# Altium integrated library Analog Devices.IntLib: 44 symbols
Pins are listed as number, name and electrical type; pins without a type are passive.

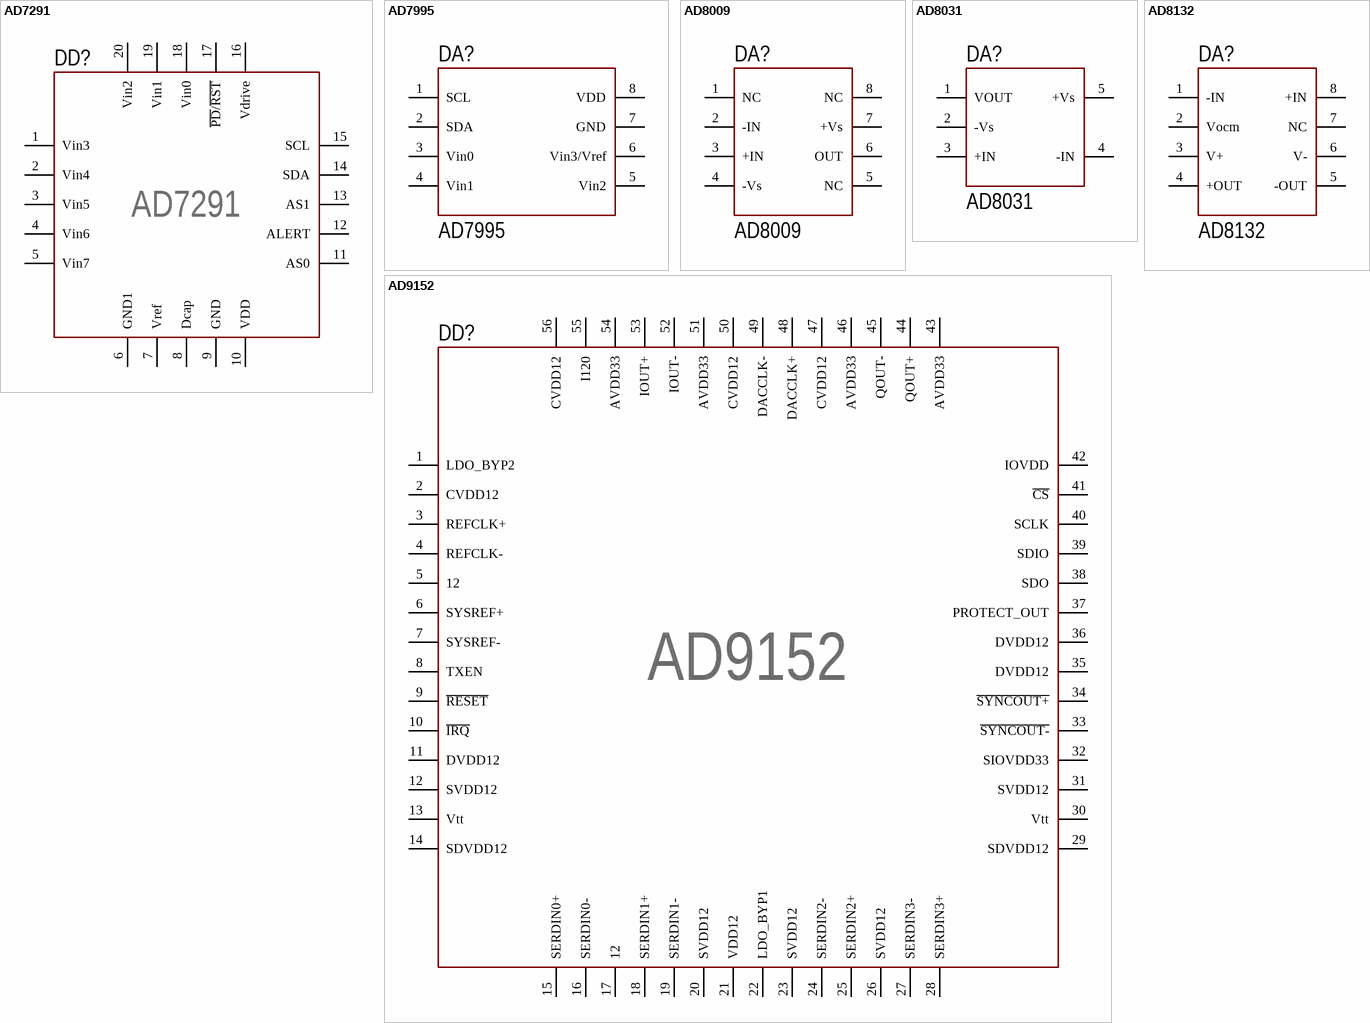
[diagram p0: symbols AD7291 to AD9152]

## AD7291
designator DD?, comment Part: AD7291  (hidden comment: AD7291BCPZ)
8-Channel, I2C, 12-Bit SAR ADC with  Temperature Sensor; Case: BCPZ
footprint CP-20-8 (QFN, 20-Leads, Body 4.00x4.00mm, Pitch 0.50mm, Thermal Pad 2.55x2.55mm, IPC Medium Density)
pins: 0 (power) hidden to GND, 1 Vin3 (power), 2 Vin4 (power), 3 Vin5 (power), 4 Vin6 (power), 5 Vin7 (power), 6 GND1 (power), 7 Vref (power), 8 Dcap (power), 9 GND (power), 10 VDD (power), 11 AS0 (power), 12 ALERT (power), 13 AS1 (power), 14 SDA (power), 15 SCL (power), 16 Vdrive (power), 17 ~{PD}/~{RST} (power), 18 Vin0 (power), 19 Vin1 (power), 20 Vin2 (power)

## AD7995
designator DA?, comment Part: AD7995  (hidden comment: AD7995YRJZ)
12-/10-/8-bit ADC, SOT-23-8; Case: YRJZ
footprint SOT23-8 (pitch 0.95 mm)
pins: 1 SCL, 2 SDA, 3 Vin0, 4 Vin1, 5 Vin2, 6 Vin3/Vref, 7 GND, 8 VDD

## AD8009
designator DA?, comment Part: AD8009  (hidden comment: AD8009ARZ)
1 GHz, 5,500 V/uS Low Distortion Amplifier; Case: ARZ
footprint SOIC-8 (pitch 1.27 mm)
pins: 1 NC, 2 -IN, 3 +IN, 4 -Vs, 5 NC, 6 OUT, 7 +Vs, 8 NC

## AD8031
designator DA?, comment Part: AD8031  (hidden comment: AD8031ARTZ)
2.7 V, 800 uA, 80 MHz Rail-to-Rail I/O Amplifiers; Case: ARTZ
footprint SOT23-5 (pitch 0.95 mm)
pins: 1 VOUT, 2 -Vs, 3 +IN, 4 -IN, 5 +Vs

## AD8132
designator DA?, comment Part: AD8132  (hidden comment: AD8132ARZ)
350 Mhz, 1200 V/us Differential Amplifier; Case: ARZ
footprint SOIC-8 (pitch 1.27 mm)
pins: 1 -IN (power), 2 Vocm (power), 3 V+ (power), 4 +OUT (power), 5 -OUT (power), 6 V- (power), 7 NC (power), 8 +IN (power)

## AD9152
designator DD?, comment Part: AD9152  (hidden comment: AD9152BCPZ)
Dual, 16-Bit, 2.25 GSPS, TxDAC+ Digital-to-Analog Converter; Case: BCPZ
footprint CP-56-9 (QFN, 56-Leads, Body 8.00x8.00mm, Pitch 0.50mm, Thermal Pad 6.60x6.60mm, IPC Medium Density)
pins: 0 (power) hidden to GND, 1 LDO_BYP2 (power), 2 CVDD12 (power), 3 REFCLK+ (power), 4 REFCLK- (power), 5 12 (power), 6 SYSREF+ (power), 7 SYSREF- (power), 8 TXEN (power), 9 ~{RESET} (power), 10 ~{IRQ} (power), 11 DVDD12 (power), 12 SVDD12 (power), 13 Vtt (power), 14 SDVDD12 (power), 15 SERDIN0+ (power), 16 SERDIN0- (power), 17 12 (power), 18 SERDIN1+ (power), 19 SERDIN1- (power), 20 SVDD12 (power), 21 VDD12 (power), 22 LDO_BYP1 (power), 23 SVDD12 (power), 24 SERDIN2- (power), 25 SERDIN2+ (power), 26 SVDD12 (power), 27 SERDIN3- (power), 28 SERDIN3+ (power), 29 SDVDD12 (power), 30 Vtt (power), 31 SVDD12 (power), 32 SIOVDD33 (power), 33 ~{SYNCOUT-} (power), 34 ~{SYNCOUT+} (power), 35 DVDD12 (power), 36 DVDD12 (power), 37 PROTECT_OUT (power), 38 SDO (power), 39 SDIO (power), 40 SCLK (power), 41 ~{CS} (power), 42 IOVDD (power), 43 AVDD33 (power), 44 QOUT+ (power), 45 QOUT- (power), 46 AVDD33 (power), 47 CVDD12 (power), 48 DACCLK+ (power), 49 DACCLK- (power), 50 CVDD12 (power), 51 AVDD33 (power), 52 IOUT- (power), 53 IOUT+ (power), 54 AVDD33 (power), 55 I120 (power), 56 CVDD12 (power)

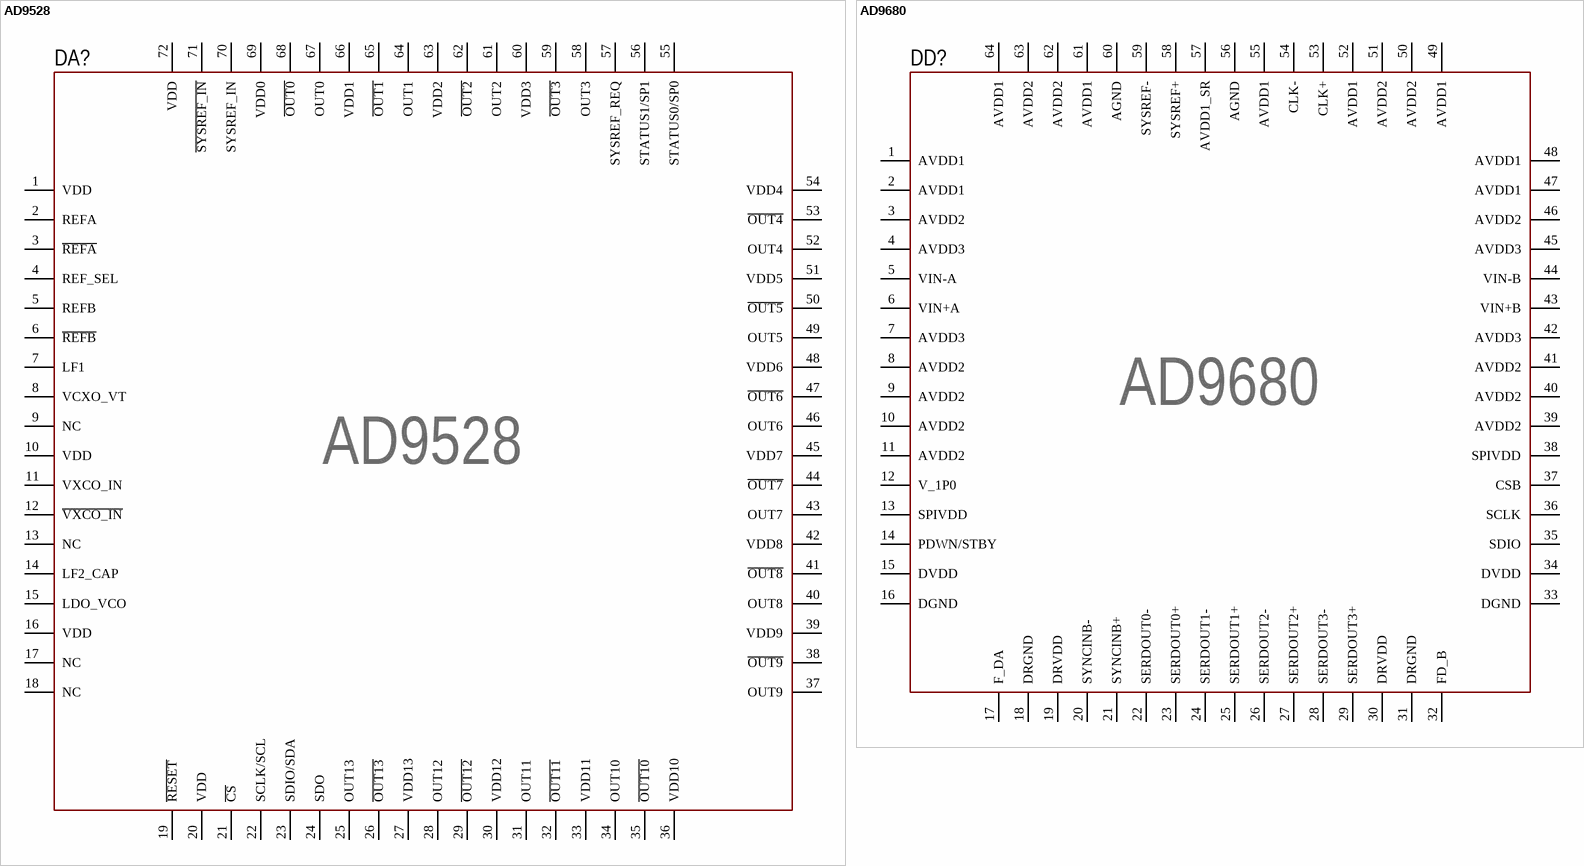
[diagram p1: symbols AD9528 to AD9680]

## AD9528
designator DA?, comment Part: AD9528  (hidden comment: AD9528BCPZ)
JESD204B Clock Generator with14 LVDS/HSTL Outputs; Case: BCPZ
footprint CP-72-6 (QFN, 72-Leads, Body 10.00x10.00mm, Pitch 0.50mm, Thermal Pad 5.30x5.30mm, IPC Medium Density)
pins: 0 (power) hidden to GND, 1 VDD (power), 2 REFA (power), 3 ~{REFA} (power), 4 REF_SEL (power), 5 REFB (power), 6 ~{REFB} (power), 7 LF1 (power), 8 VCXO_VT (power), 9 NC (power), 10 VDD (power), 11 VXCO_IN (power), 12 ~{VXCO_IN} (power), 13 NC (power), 14 LF2_CAP (power), 15 LDO_VCO (power), 16 VDD (power), 17 NC (power), 18 NC (power), 19 ~{RESET} (power), 20 VDD (power), 21 ~{CS} (power), 22 SCLK/SCL (power), 23 SDIO/SDA (power), 24 SDO (power), 25 OUT13 (power), 26 ~{OUT13} (power), 27 VDD13 (power), 28 OUT12 (power), 29 ~{OUT12} (power), 30 VDD12 (power), 31 OUT11 (power), 32 ~{OUT11} (power), 33 VDD11 (power), 34 OUT10 (power), 35 ~{OUT10} (power), 36 VDD10 (power), 37 OUT9 (power), 38 ~{OUT9} (power), 39 VDD9 (power), 40 OUT8 (power), 41 ~{OUT8} (power), 42 VDD8 (power), 43 OUT7 (power), 44 ~{OUT7} (power), 45 VDD7 (power), 46 OUT6 (power), 47 ~{OUT6} (power), 48 VDD6 (power), 49 OUT5 (power), 50 ~{OUT5} (power), 51 VDD5 (power), 52 OUT4 (power), 53 ~{OUT4} (power), 54 VDD4 (power), 55 STATUS0/SP0 (power), 56 STATUS1/SP1 (power), 57 SYSREF_REQ (power), 58 OUT3 (power), 59 ~{OUT3} (power), 60 VDD3 (power), 61 OUT2 (power), 62 ~{OUT2} (power), 63 VDD2 (power), 64 OUT1 (power), 65 ~{OUT1} (power), 66 VDD1 (power), 67 OUT0 (power), 68 ~{OUT0} (power), 69 VDD0 (power), 70 SYSREF_IN (power), 71 ~{SYSREF_IN} (power), 72 VDD (power)

## AD9680
designator DD?, comment Part: AD9680  (hidden comment: AD9680BCPZ-1250)
14-Bit, 1.25 GSPS/1 GSPS/820 MSPS/500 MSPSJESD204B, Dual Analog-to-Digital Converter; SPS: 1250; Case: BCPZ
footprint CP-64-15 (QFN, 64-Leads, Body 9.00x9.00mm, Pitch 0.50mm, Thermal Pad 7.60x7.60mm, IPC Medium Density)
pins: 0 (power) hidden to GND, 1 AVDD1 (power), 2 AVDD1 (power), 3 AVDD2 (power), 4 AVDD3 (power), 5 VIN-A (power), 6 VIN+A (power), 7 AVDD3 (power), 8 AVDD2 (power), 9 AVDD2 (power), 10 AVDD2 (power), 11 AVDD2 (power), 12 V_1P0 (power), 13 SPIVDD (power), 14 PDWN/STBY (power), 15 DVDD (power), 16 DGND (power), 17 F_DA (power), 18 DRGND (power), 19 DRVDD (power), 20 SYNCINB- (power), 21 SYNCINB+ (power), 22 SERDOUT0- (power), 23 SERDOUT0+ (power), 24 SERDOUT1- (power), 25 SERDOUT1+ (power), 26 SERDOUT2- (power), 27 SERDOUT2+ (power), 28 SERDOUT3- (power), 29 SERDOUT3+ (power), 30 DRVDD (power), 31 DRGND (power), 32 FD_B (power), 33 DGND (power), 34 DVDD (power), 35 SDIO (power), 36 SCLK (power), 37 CSB (power), 38 SPIVDD (power), 39 AVDD2 (power), 40 AVDD2 (power), 41 AVDD2 (power), 42 AVDD3 (power), 43 VIN+B (power), 44 VIN-B (power), 45 AVDD3 (power), 46 AVDD2 (power), 47 AVDD1 (power), 48 AVDD1 (power), 49 AVDD1 (power), 50 AVDD2 (power), 51 AVDD2 (power), 52 AVDD1 (power), 53 CLK+ (power), 54 CLK- (power), 55 AVDD1 (power), 56 AGND (power), 57 AVDD1_SR (power), 58 SYSREF+ (power), 59 SYSREF- (power), 60 AGND (power), 61 AVDD1 (power), 62 AVDD2 (power), 63 AVDD2 (power), 64 AVDD1 (power)

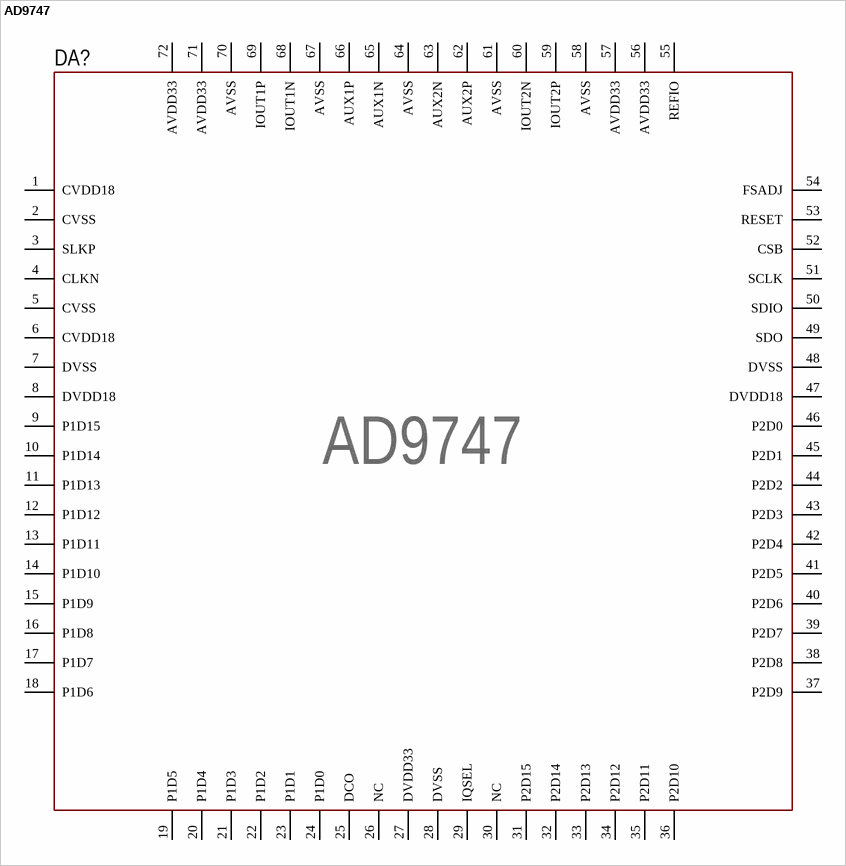
[diagram p2: symbol AD9747]

## AD9747
designator DA?, comment Part: AD9747  (hidden comment: AD9747BCPZ)
Dual, 16-Bit, 250 MSPS, Digital-to-Analog Converter; Case: BCPZ
footprint CP-72-1 (QFN, 72-Leads, Body 10.00x10.00mm, Pitch 0.50mm, Thermal Pad 4.70x4.70mm, IPC Medium Density)
pins: 0 hidden to GND, 1 CVDD18, 2 CVSS, 3 SLKP, 4 CLKN, 5 CVSS, 6 CVDD18, 7 DVSS, 8 DVDD18, 9 P1D15, 10 P1D14, 11 P1D13, 12 P1D12, 13 P1D11, 14 P1D10, 15 P1D9, 16 P1D8, 17 P1D7, 18 P1D6, 19 P1D5, 20 P1D4, 21 P1D3, 22 P1D2, 23 P1D1, 24 P1D0, 25 DCO, 26 NC, 27 DVDD33, 28 DVSS, 29 IQSEL, 30 NC, 31 P2D15, 32 P2D14, 33 P2D13, 34 P2D12, 35 P2D11, 36 P2D10, 37 P2D9, 38 P2D8, 39 P2D7, 40 P2D6, 41 P2D5, 42 P2D4, 43 P2D3, 44 P2D2, 45 P2D1, 46 P2D0, 47 DVDD18, 48 DVSS, 49 SDO, 50 SDIO, 51 SCLK, 52 CSB, 53 RESET, 54 FSADJ, 55 REFIO, 56 AVDD33, 57 AVDD33, 58 AVSS, 59 IOUT2P, 60 IOUT2N, 61 AVSS, 62 AUX2P, 63 AUX2N, 64 AVSS, 65 AUX1N, 66 AUX1P, 67 AVSS, 68 IOUT1N, 69 IOUT1P, 70 AVSS, 71 AVDD33, 72 AVDD33

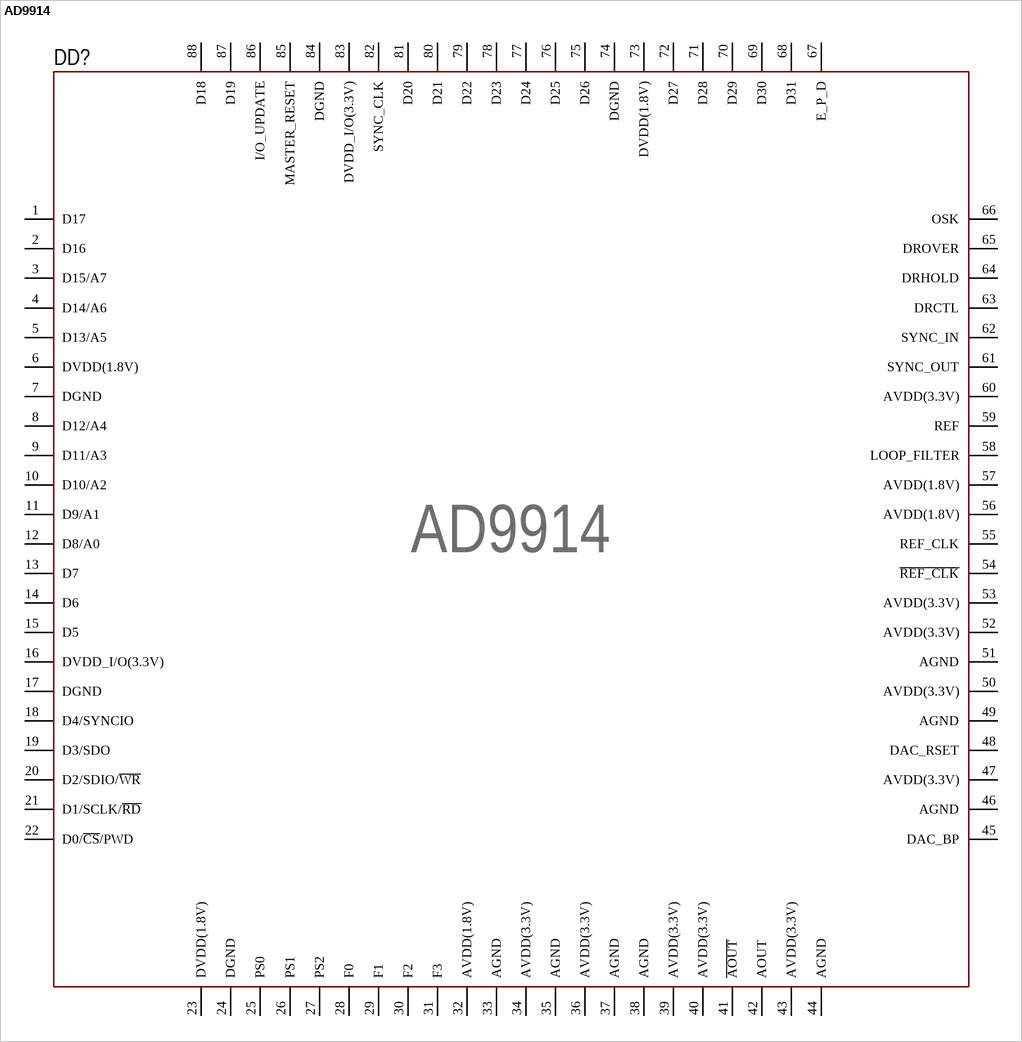
[diagram p3: symbol AD9914]

## AD9914
designator DD?, comment Part: AD9914  (hidden comment: AD9914BCPZ)
3.5 GSPS Direct Digital Synthesizer with 12-Bit DAC; Case: BCPZ
footprint CP-88-5 (QFN, 88-Leads, Body 12.00x12.00mm, Pitch 0.50mm, Thermal Pad 6.70x6.70mm, IPC Medium Density)
pins: 0 hidden to GND, 1 D17, 2 D16, 3 D15/A7, 4 D14/A6, 5 D13/A5, 6 DVDD(1.8V), 7 DGND, 8 D12/A4, 9 D11/A3, 10 D10/A2, 11 D9/A1, 12 D8/A0, 13 D7, 14 D6, 15 D5, 16 DVDD_I/O(3.3V), 17 DGND, 18 D4/SYNCIO, 19 D3/SDO, 20 D2/SDIO/~{WR}, 21 D1/SCLK/~{RD}, 22 D0/~{CS}/PWD, 23 DVDD(1.8V), 24 DGND, 25 PS0, 26 PS1, 27 PS2, 28 F0, 29 F1, 30 F2, 31 F3, 32 AVDD(1.8V), 33 AGND, 34 AVDD(3.3V), 35 AGND, 36 AVDD(3.3V), 37 AGND, 38 AGND, 39 AVDD(3.3V), 40 AVDD(3.3V), 41 ~{AOUT}, 42 AOUT, 43 AVDD(3.3V), 44 AGND, 45 DAC_BP, 46 AGND, 47 AVDD(3.3V), 48 DAC_RSET, 49 AGND, 50 AVDD(3.3V), 51 AGND, 52 AVDD(3.3V), 53 AVDD(3.3V), 54 ~{REF_CLK}, 55 REF_CLK, 56 AVDD(1.8V), 57 AVDD(1.8V), 58 LOOP_FILTER, 59 REF, 60 AVDD(3.3V), 61 SYNC_OUT, 62 SYNC_IN, 63 DRCTL, 64 DRHOLD, 65 DROVER, 66 OSK, 67 E_P_D, 68 D31, 69 D30, 70 D29, 71 D28, 72 D27, 73 DVDD(1.8V), 74 DGND, 75 D26, 76 D25, 77 D24, 78 D23, 79 D22, 80 D21, 81 D20, 82 SYNC_CLK, 83 DVDD_I/O(3.3V), 84 DGND, 85 MASTER_RESET, 86 I/O_UPDATE, 87 D19, 88 D18

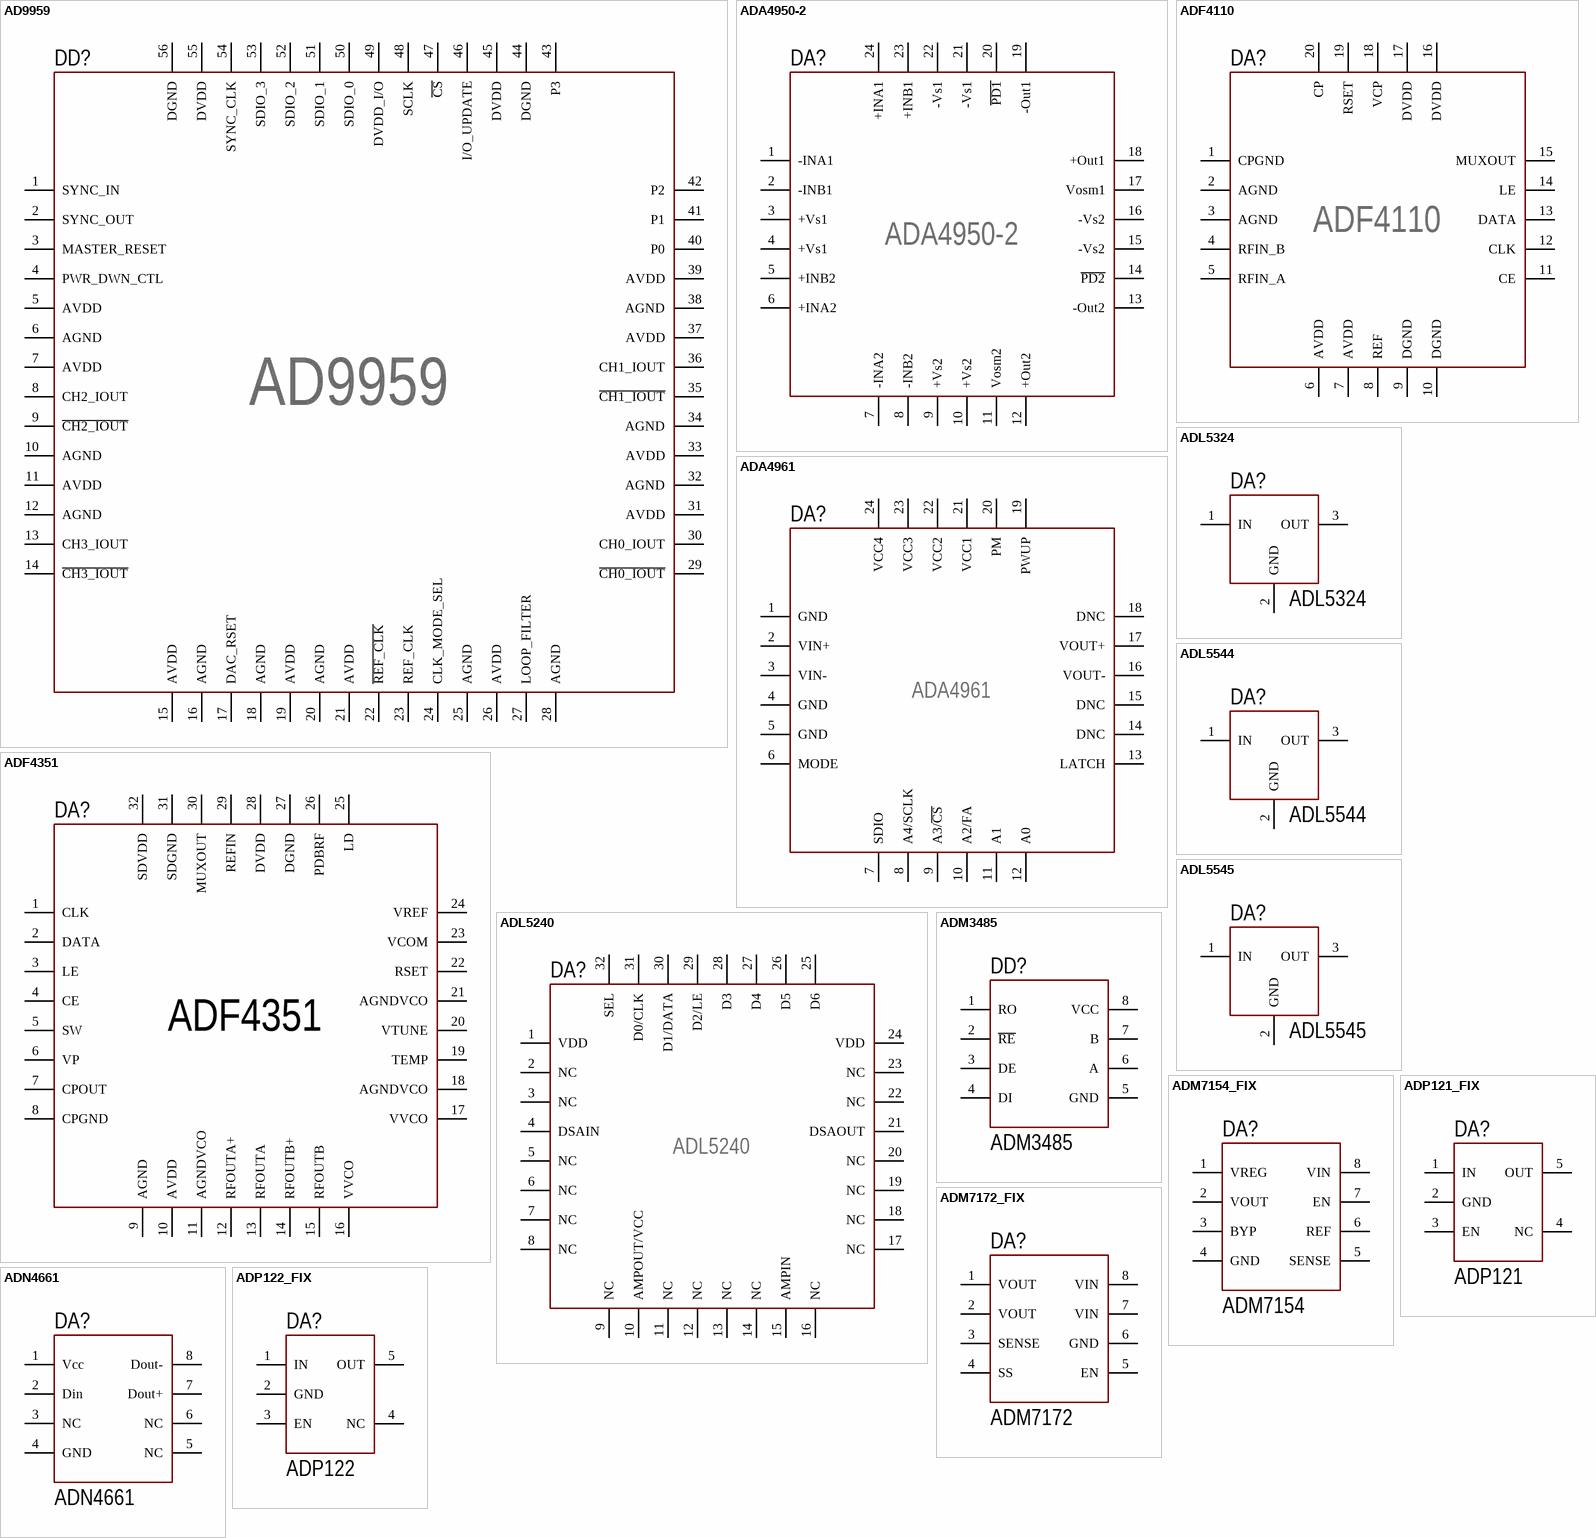
[diagram p4: symbols AD9959 to ADP122_FIX]

## AD9959
designator DD?, comment Part: AD9959  (hidden comment: AD9959BCPZ)
4-Channel, 500 MSPS DDS with 10-bit DACs; Case: BCPZ
footprint CP-56-1
pins: 0 GND (power) hidden to GND, 1 SYNC_IN, 2 SYNC_OUT, 3 MASTER_RESET, 4 PWR_DWN_CTL, 5 AVDD, 6 AGND, 7 AVDD, 8 CH2_IOUT, 9 ~{CH2_IOUT}, 10 AGND, 11 AVDD, 12 AGND, 13 CH3_IOUT, 14 ~{CH3_IOUT}, 15 AVDD, 16 AGND, 17 DAC_RSET, 18 AGND, 19 AVDD, 20 AGND, 21 AVDD, 22 ~{REF_CLK}, 23 REF_CLK, 24 CLK_MODE_SEL, 25 AGND, 26 AVDD, 27 LOOP_FILTER, 28 AGND, 29 ~{CH0_IOUT}, 30 CH0_IOUT, 31 AVDD, 32 AGND, 33 AVDD, 34 AGND, 35 ~{CH1_IOUT}, 36 CH1_IOUT, 37 AVDD, 38 AGND, 39 AVDD, 40 P0, 41 P1, 42 P2, 43 P3, 44 DGND, 45 DVDD, 46 I/O_UPDATE, 47 ~{CS}, 48 SCLK, 49 DVDD_I/O, 50 SDIO_0, 51 SDIO_1, 52 SDIO_2, 53 SDIO_3, 54 SYNC_CLK, 55 DVDD, 56 DGND

## ADA4950-2
designator DA?, comment Part: ADA4950-2  (hidden comment: ADA4950-2YCPZ)
Low Power, Selectable Gain, Differential ADC Driver; Case: YCPZ
footprint CP-24-14
pins: 0 GND (power) hidden to GND, 1 -INA1, 2 -INB1, 3 +Vs1, 4 +Vs1, 5 +INB2, 6 +INA2, 7 -INA2, 8 -INB2, 9 +Vs2, 10 +Vs2, 11 Vosm2, 12 +Out2, 13 -Out2, 14 ~{PD2}, 15 -Vs2, 16 -Vs2, 17 Vosm1, 18 +Out1, 19 -Out1, 20 ~{PD1}, 21 -Vs1, 22 -Vs1, 23 +INB1, 24 +INA1

## ADA4961
designator DA?, comment Part: ADA4961  (hidden comment: ADA4961ACPZN)
Low Distortion, 3.2 GHz, RF DGA; Case: ACPZN
footprint CP-24-7 (QFN, 24-Leads, Body 4.00x4.00mm, Pitch 0.50mm, Thermal Pad 2.55x2.55mm, IPC Medium Density)
pins: 0 (power) hidden to GND, 1 GND (power), 2 VIN+ (power), 3 VIN- (power), 4 GND (power), 5 GND (power), 6 MODE (power), 7 SDIO (power), 8 A4/SCLK (power), 9 A3/~{CS} (power), 10 A2/FA (power), 11 A1 (power), 12 A0 (power), 13 LATCH (power), 14 DNC (power), 15 DNC (power), 16 VOUT- (power), 17 VOUT+ (power), 18 DNC (power), 19 PWUP (power), 20 PM (power), 21 VCC1 (power), 22 VCC2 (power), 23 VCC3 (power), 24 VCC4 (power)

## ADF4110
designator DA?, comment Part: ADF4110  (hidden comment: ADF4110BCPZ)
RF PLL Frequency Synthesizers; Case: BCPZ
footprint CP-20-6 (QFN, 20-Leads, Body 4.00x4.00mm, Pitch 0.50mm, Thermal Pad 2.15x2.15mm, IPC Medium Density)
pins: 1 CPGND, 2 AGND, 3 AGND, 4 RFIN_B, 5 RFIN_A, 6 AVDD, 7 AVDD, 8 REF, 9 DGND, 10 DGND, 11 CE, 12 CLK, 13 DATA, 14 LE, 15 MUXOUT, 16 DVDD, 17 DVDD, 18 VCP, 19 RSET, 20 CP

## ADF4351
designator DA?, comment Part: ADF4351  (hidden comment: ADF4351BCPZ)
Wideband Synthesizer with Integrated VCO, 35 to 4400 MHz; Case: BCPZ
footprint CP-32-7 (QFN, 32-Leads, Body 5.00x5.00mm, Pitch 0.50mm, Thermal Pad 3.10x3.10mm, IPC Medium Density)
pins: 1 CLK, 2 DATA, 3 LE, 4 CE, 5 SW, 6 VP, 7 CPOUT, 8 CPGND, 9 AGND, 10 AVDD, 11 AGNDVCO, 12 RFOUTA+, 13 RFOUTA, 14 RFOUTB+, 15 RFOUTB, 16 VVCO, 17 VVCO, 18 AGNDVCO, 19 TEMP, 20 VTUNE, 21 AGNDVCO, 22 RSET, 23 VCOM, 24 VREF, 25 LD, 26 PDBRF, 27 DGND (power), 28 DVDD, 29 REFIN, 30 MUXOUT, 31 SDGND, 32 SDVDD

## ADL5240
designator DA?, comment Part: ADL5240  (hidden comment: ADL5240ACPZ)
100 MHz to 4000 MHz RF/IF Digitally Controlled VGA; Case: ACPZ
footprint CP-32-3
pins: 0 GND (power) hidden to GND, 1 VDD, 2 NC, 3 NC, 4 DSAIN, 5 NC, 6 NC, 7 NC, 8 NC, 9 NC, 10 AMPOUT/VCC, 11 NC, 12 NC, 13 NC, 14 NC, 15 AMPIN, 16 NC, 17 NC, 18 NC, 19 NC, 20 NC, 21 DSAOUT, 22 NC, 23 NC, 24 VDD, 25 D6, 26 D5, 27 D4, 28 D3, 29 D2/LE, 30 D1/DATA, 31 D0/CLK, 32 SEL

## ADL5324
designator DA?, comment Part: ADL5324  (hidden comment: ADL5324ARKZ)
400 MHz to 4000 MHz 1/2 Watt RF Driver Amplifier; Case: ARKZ
footprint SOT89 (SOT89, 3-Leads, Body 4,50x2,45mm, Pitch 1,50mm, Lead Span 4,1mm, IPC Medium Density)
pins: 1 IN, 2 GND, 3 OUT

## ADL5544
designator DA?, comment Part: ADL5544  (hidden comment: ADL5544ARKZ)
30 MHz to 6 GHz RF/IF Gain Block; Case: ARKZ
footprint SOT89 (SOT89, 3-Leads, Body 4,50x2,45mm, Pitch 1,50mm, Lead Span 4,1mm, IPC Medium Density)
pins: 1 IN, 2 GND, 3 OUT

## ADL5545
designator DA?, comment Part: ADL5545  (hidden comment: ADL5545ARKZ)
30 MHz to 6 GHz RF/IF Gain Block; Case: ARKZ
footprint SOT89 (SOT89, 3-Leads, Body 4,50x2,45mm, Pitch 1,50mm, Lead Span 4,1mm, IPC Medium Density)
pins: 1 IN, 2 GND, 3 OUT

## ADM3485
designator DD?, comment Part: ADM3485  (hidden comment: ADM3485ARZ)
3.3 V Slew Rate Limited, Half- andFull-Duplex, RS-485 Transceiver; Case: ARZ
footprint SOIC-8 (pitch 1.27 mm)
pins: 1 RO, 2 ~{RE}, 3 DE, 4 DI, 5 GND, 6 A, 7 B, 8 VCC

## ADM7154_FIX
designator DA?, comment Part: ADM7154  (hidden comment: ADM7154ACPZ-1.2)
600 mA, Ultralow Noise, High PSRR, RF Linear Regulator; Voltage: 1.2; Package: ACPZ
footprint DFN-8
pins: 0 (power) hidden to GND, 1 VREG, 2 VOUT, 3 BYP, 4 GND, 5 SENSE, 6 REF, 7 EN, 8 VIN

## ADM7172_FIX
designator DA?, comment Part: ADM7172  (hidden comment: ADM7172ACPZ-*)
6.5 V, 2 A, Ultralow Noise, High PSRR, Fast Transient Response CMOS LDO; Case: ACPZ; Voltage: *
footprint DFN-8
pins: 1 VOUT (power), 2 VOUT (power), 3 SENSE (power), 4 SS (power), 5 EN (power), 6 GND (power), 7 VIN (power), 8 VIN (power)

## ADN4661
designator DA?, comment Part: ADN4661  (hidden comment: ADN4661BRZ)
Single, 3 V, CMOS, LVDS,High Speed Differential Driver; Case: BRZ
footprint SOIC-8 (pitch 1.27 mm)
pins: 1 Vcc (power), 2 Din (power), 3 NC (power), 4 GND (power), 5 NC (power), 6 NC (power), 7 Dout+ (power), 8 Dout- (power)

## ADP121_FIX
designator DA?, comment Part: ADP121  (hidden comment: ADP121-AUJZ12)
150 mA, Low Quiescent Current,CMOS Linear Regulator; Voltage: 12; Case: AUJZ
footprint SOT23-5 (pitch 0.95 mm)
pins: 1 IN (power), 2 GND (power), 3 EN, 4 NC, 5 OUT (power)

## ADP122_FIX
designator DA?, comment Part: ADP122  (hidden comment: ADP122AUJZ-3.3)
5.5 V Input, 300 mA, Low Quiescent Current, CMOS Linear Regulator; Voltage: 3.3; Case: AUJZ
footprint SOT23-5 (pitch 0.95 mm)
pins: 1 IN (power), 2 GND (power), 3 EN, 4 NC, 5 OUT (power)

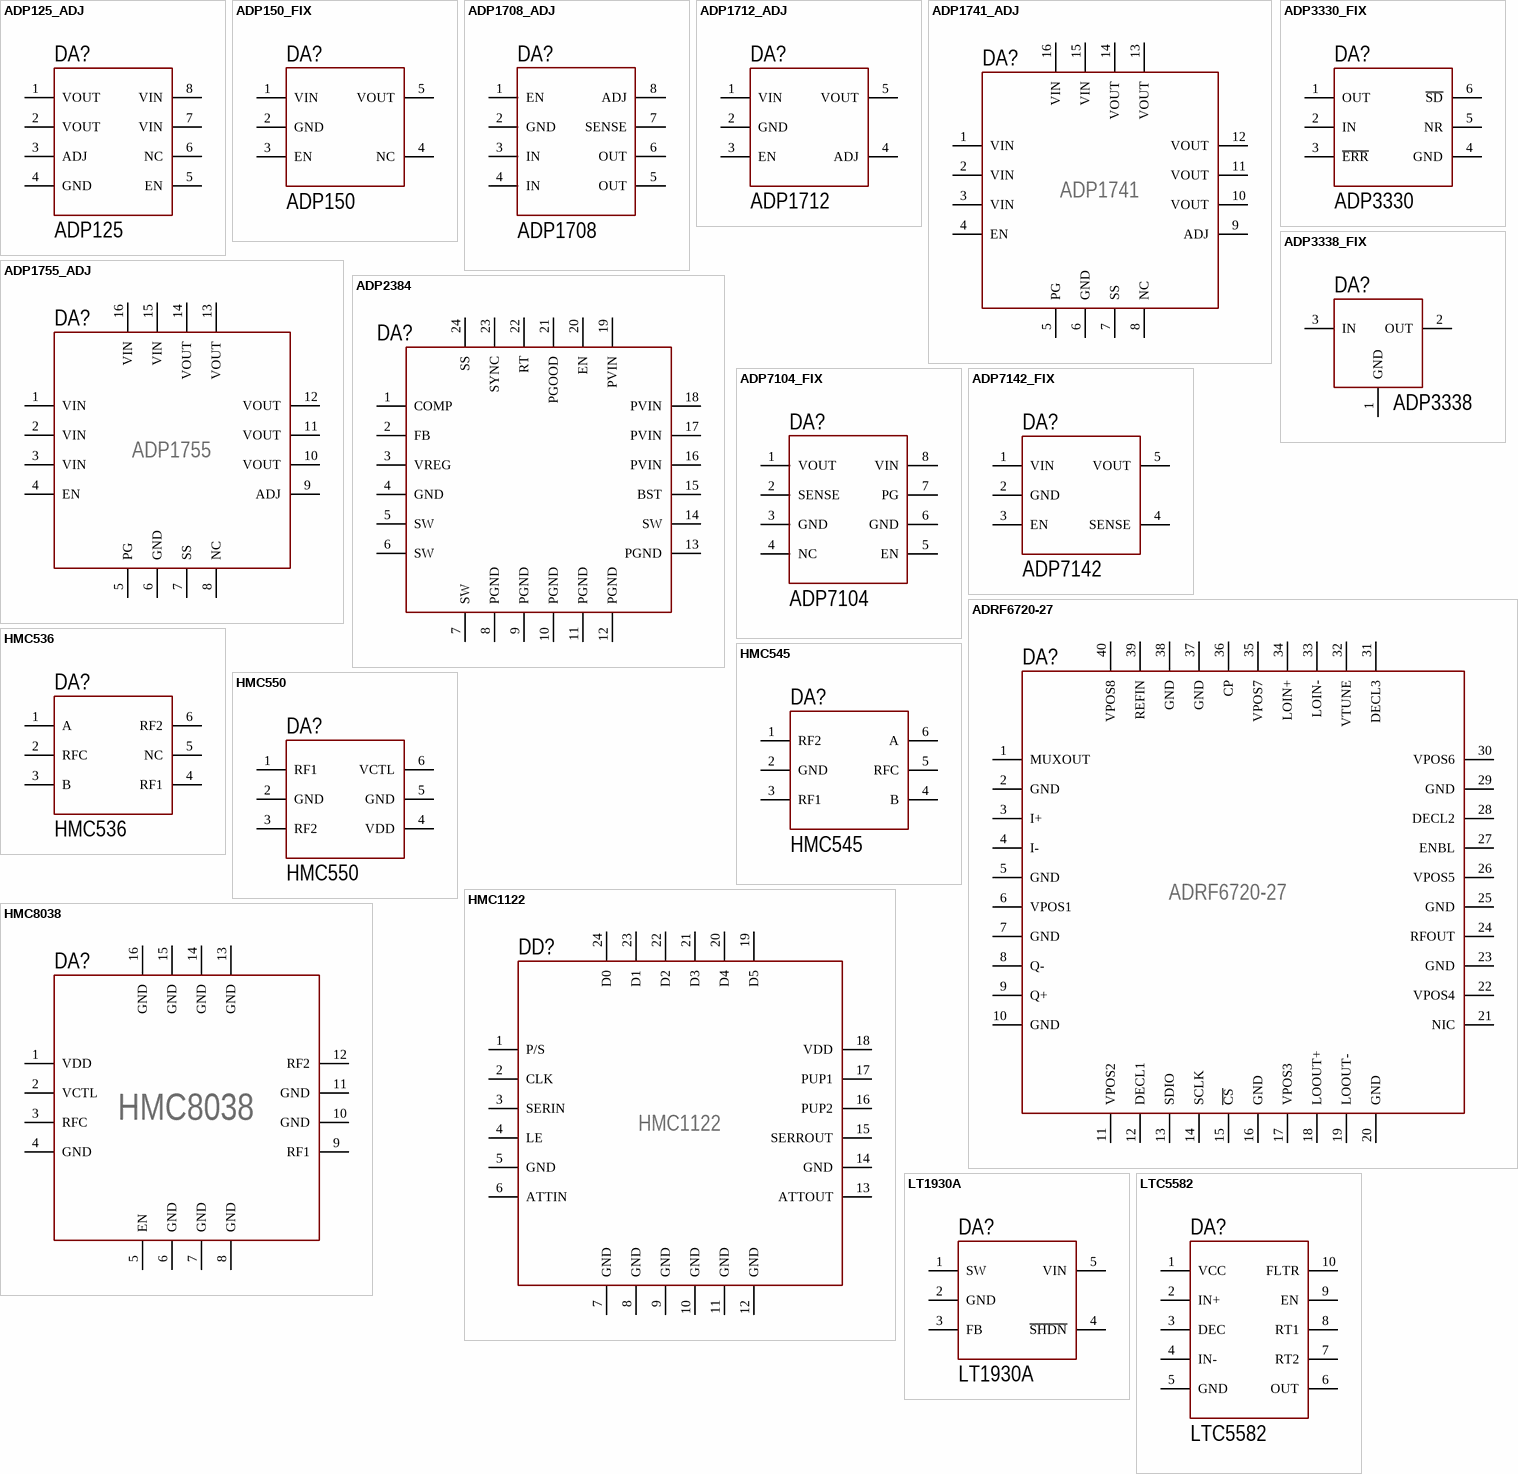
[diagram p5: symbols ADP125_ADJ to LTC5582]

## ADP125_ADJ
designator DA?, comment Part: ADP125  (hidden comment: ADP125ARHZ)
5.5 V Input, 500 mA, LowQuiescent Current, CMOS Linear Regulator; Case: ARHZ
footprint RH-8-1 (MSOP-8-EP) (TSOP, 8-Leads, Body 3.00x3.00mm, Pitch 0.65mm, Thermal Pad 1.83x1.76mm, IPC Medium Density)
pins: 0 hidden to GND, 1 VOUT, 2 VOUT, 3 ADJ, 4 GND, 5 EN, 6 NC, 7 VIN, 8 VIN

## ADP150_FIX
designator DA?, comment Part: ADP150  (hidden comment: ADP150AUJZ-*)
Ultralow Noise, 150 mA CMOS Linear Regulator; Voltage: *; Case: AUJZ
footprint SOT23-5 (pitch 0.95 mm)
pins: 1 VIN, 2 GND, 3 EN, 4 NC, 5 VOUT

## ADP1708_ADJ
designator DA?, comment Part: ADP1708  (hidden comment: ADP1708ARDZ)
1 A, Low Dropout,CMOS Linear Regulator; Case: ARDZ
footprint RD-8-2 (SOIC-8-EP) (pitch 1.27 mm, power pad)
pins: 0 GND (power) hidden to GND, 1 EN, 2 GND, 3 IN, 4 IN, 5 OUT, 6 OUT, 7 SENSE, 8 ADJ

## ADP1712_ADJ
designator DA?, comment Part: ADP1712  (hidden comment: ADP1712AUJZ)
300 mA, Low Dropout CMOS Linear Regulator; Case: AUJZ
footprint SOT23-5 (pitch 0.95 mm)
pins: 1 VIN, 2 GND, 3 EN, 4 ADJ, 5 VOUT

## ADP1741_ADJ
designator DA?, comment Part: ADP1741  (hidden comment: ADP1741ACPZ)
2 A, Low VIN, Low Dropout Adjustable Linear Regulator, 0.75 to 3.3 V; Case: ACPZ
footprint CP-16-23 (QFN, 16-Leads, Body 4.00x4.00mm, Pitch 0.65mm, Thermal Pad 2.10x2.10mm, IPC Medium Density)
pins: 0 (power) hidden to GND, 1 VIN (power), 2 VIN (power), 3 VIN (power), 4 EN (power), 5 PG (power), 6 GND (power), 7 SS (power), 8 NC (power), 9 ADJ (power), 10 VOUT (power), 11 VOUT (power), 12 VOUT (power), 13 VOUT (power), 14 VOUT (power), 15 VIN (power), 16 VIN (power)

## ADP1755_ADJ
designator DA?, comment Part: ADP1755  (hidden comment: ADP1755ACPZ)
1.2 A, Low VIN, Low Dropout Adjustable Linear Regulator, 0.75 to 3.3 V; Case: ACPZ
footprint CP-16-23 (QFN, 16-Leads, Body 4.00x4.00mm, Pitch 0.65mm, Thermal Pad 2.10x2.10mm, IPC Medium Density)
pins: 0 (power) hidden to GND, 1 VIN (power), 2 VIN (power), 3 VIN (power), 4 EN (power), 5 PG (power), 6 GND (power), 7 SS (power), 8 NC (power), 9 ADJ (power), 10 VOUT (power), 11 VOUT (power), 12 VOUT (power), 13 VOUT (power), 14 VOUT (power), 15 VIN (power), 16 VIN (power)

## ADP2384
designator DA?, comment ADP2384ACPZN  (value not drawn)
20 V, 4 A, Synchronous, Step-DownDC-to-DC Regulator; Part: ADP2384; Case: ACPZN
footprint CP-24-12 (QFN, 24-Leads, Body 4.00x4.00mm, Pitch 0.50mm, IPC Medium Density)
pins: 0 (power) hidden to GND, 1 COMP (power), 2 FB (power), 3 VREG (power), 4 GND (power), 5 SW (power), 6 SW (power), 7 SW (power), 8 PGND (power), 9 PGND (power), 10 PGND (power), 11 PGND (power), 12 PGND (power), 13 PGND (power), 14 SW (power), 15 BST (power), 16 PVIN (power), 17 PVIN (power), 18 PVIN (power), 19 PVIN (power), 20 EN (power), 21 PGOOD (power), 22 RT (power), 23 SYNC (power), 24 SS (power)

## ADP3330_FIX
designator DA?, comment Part: ADP3330  (hidden comment: ADP3330ARTZ-*)
High Accuracy, Ultralow IQ, 200 mA, SOT-23, anyCAP Low Dropout Regulator; Case: ARTZ; Voltage: *
footprint SOT23-6 (pitch 0.95 mm)
pins: 1 OUT, 2 IN, 3 ~{ERR}, 4 GND, 5 NR, 6 ~{SD}

## ADP3338_FIX
designator DA?, comment Part: ADP3338  (hidden comment: ADP3338AKCZ-*)
High Accuracy, Ultralow IQ, 1 A, anyCAP® Low Dropout Regulator; Case: AKCZ; Voltage: *
footprint KC-3 (SOT-223) (SOT223, 4-Leads, Body 6.50x7.00mm (avg), Pitch 2.30mm, IPC Medium Density)
pins: 1 GND, 2 OUT, 3 IN

## ADP7104_FIX
designator DA?, comment Part: ADP7104  (hidden comment: ADP7104ARDZ-*)
20 V, 500 mA, Low Noise, CMOS LDO; Case: ARDZ; Voltage: *
footprint RD-8-2 (SOIC-8-EP) (pitch 1.27 mm, power pad)
pins: 0 GND (power) hidden to GND, 1 VOUT, 2 SENSE, 3 GND, 4 NC, 5 EN, 6 GND, 7 PG, 8 VIN

## ADP7142_FIX
designator DA?, comment Part: ADP7142  (hidden comment: ADP7142AUJZ-5.0)
40 V, 200 mA, Low Noise,CMOS LDO Linear Regulator; Voltage: 5.0; Case: AUJZ
footprint SOT23-5 (pitch 0.95 mm)
pins: 1 VIN, 2 GND, 3 EN, 4 SENSE, 5 VOUT

## ADRF6720-27
designator DA?, comment Part: ADRF6720-27  (hidden comment: ADRF6720-27ACPZ)
Wideband Quadrature Modulator with Integrated Fractional-N PLL and VCOs; Case: ACPZ
footprint CP-40-11
pins: 0 GND (power) hidden to GND, 1 MUXOUT, 2 GND, 3 I+, 4 I-, 5 GND, 6 VPOS1, 7 GND, 8 Q-, 9 Q+, 10 GND, 11 VPOS2, 12 DECL1, 13 SDIO, 14 SCLK, 15 ~{CS}, 16 GND, 17 VPOS3, 18 LOOUT+, 19 LOOUT-, 20 GND, 21 NIC, 22 VPOS4, 23 GND, 24 RFOUT, 25 GND, 26 VPOS5, 27 ENBL, 28 DECL2, 29 GND, 30 VPOS6, 31 DECL3, 32 VTUNE, 33 LOIN-, 34 LOIN+, 35 VPOS7, 36 CP, 37 GND, 38 GND, 39 REFIN, 40 VPOS8

## HMC536
designator DA?, comment Part: HMC536  (hidden comment: HMC536LP2)
GaAs MMIC POSITIVE CONTROLT/R SWITCH, DC - 6 GHz; Case: LP2
footprint DFN-6 (SON, 6-Leads, Body 2.00x2.00mm, Pitch 0.60mm, Thermal Pad 1.40x0.80mm, IPC Medium Density)
pins: 1 A, 2 RFC, 3 B, 4 RF1, 5 NC, 6 RF2

## HMC545
designator DA?, comment Part: HMC545  (hidden comment: HMC545AE)
GaAs MMIC SPDT SWITCH, DC - 3 GHz; Case: AE
footprint SOT23-6 (pitch 0.95 mm)
pins: 1 RF2, 2 GND, 3 RF1, 4 B, 5 RFC, 6 A

## HMC550
designator DA?, comment Part: HMC550  (hidden comment: HMC550AE)
GaAs MMIC SPST FAILSAFE SWITCH, DC - 6 GHz; Case: AE
footprint SOT23-6 (pitch 0.95 mm)
pins: 1 RF1, 2 GND, 3 RF2, 4 VDD, 5 GND, 6 VCTL

## HMC1122
designator DD?, comment Part: HMC1122  (hidden comment: HMC1122LP4ME)
0.1 GHz to 6.0 GHz, 0.5 dB LSB, 6-Bit, Silicon Digital Attenuator; Case: LP4ME
footprint CP-24-3
pins: 0 hidden to GND, 1 P/S, 2 CLK, 3 SERIN, 4 LE, 5 GND, 6 ATTIN, 7 GND, 8 GND, 9 GND, 10 GND, 11 GND, 12 GND, 13 ATTOUT, 14 GND, 15 SERROUT, 16 PUP2, 17 PUP1, 18 VDD, 19 D5, 20 D4, 21 D3, 22 D2, 23 D1, 24 D0

## HMC8038
designator DA?, comment Part: HMC8038  (hidden comment: HMC8038LP4CE)
High Isolation, Silicon SPDT, Nonreflective Switch, 0.1GHz to 6.0GHz; Case: LP4CE
footprint CP-16-40 (QFN, 16-Leads, Body 4.00x4.00mm, Pitch 0.65mm, Thermal Pad 2.40x2.40mm, IPC Medium Density)
pins: 0 hidden to GND, 1 VDD, 2 VCTL, 3 RFC, 4 GND, 5 EN, 6 GND, 7 GND, 8 GND, 9 RF1, 10 GND, 11 GND, 12 RF2, 13 GND, 14 GND, 15 GND, 16 GND

## LT1930A
designator DA?, comment Part: LT1930A  (hidden comment: LT1930AES5)
1A, 2.2MHz, Step-Up DC/DC Converter; Case: ES5
footprint SOT23-5 (pitch 0.95 mm)
pins: 1 SW, 2 GND, 3 FB, 4 ~{SHDN}, 5 VIN

## LTC5582
designator DA?
40MHz to 10GHz RMS Power Detector with 57dB Dynamic Range; Part: LTC5582
footprint DFN-10 (3x3 mm, pitch 0.5 mm, power pad)
pins: 0 GND (power) hidden to GND, 1 VCC, 2 IN+, 3 DEC, 4 IN-, 5 GND, 6 OUT, 7 RT2, 8 RT1, 9 EN, 10 FLTR